# Altium footprint library LINUX.PcbLib: 113 footprints (part 1 of 8)
Each footprint in its own frame and in the unit in brackets; x right, y up, seen from the top. Pads: shape width x height; smd on the part's side, far side on the other; paste and mask are expansions set on the pad; w line width, h text height; cw(c..) or ccw(c..) is an arc to the next point about the centre after c.
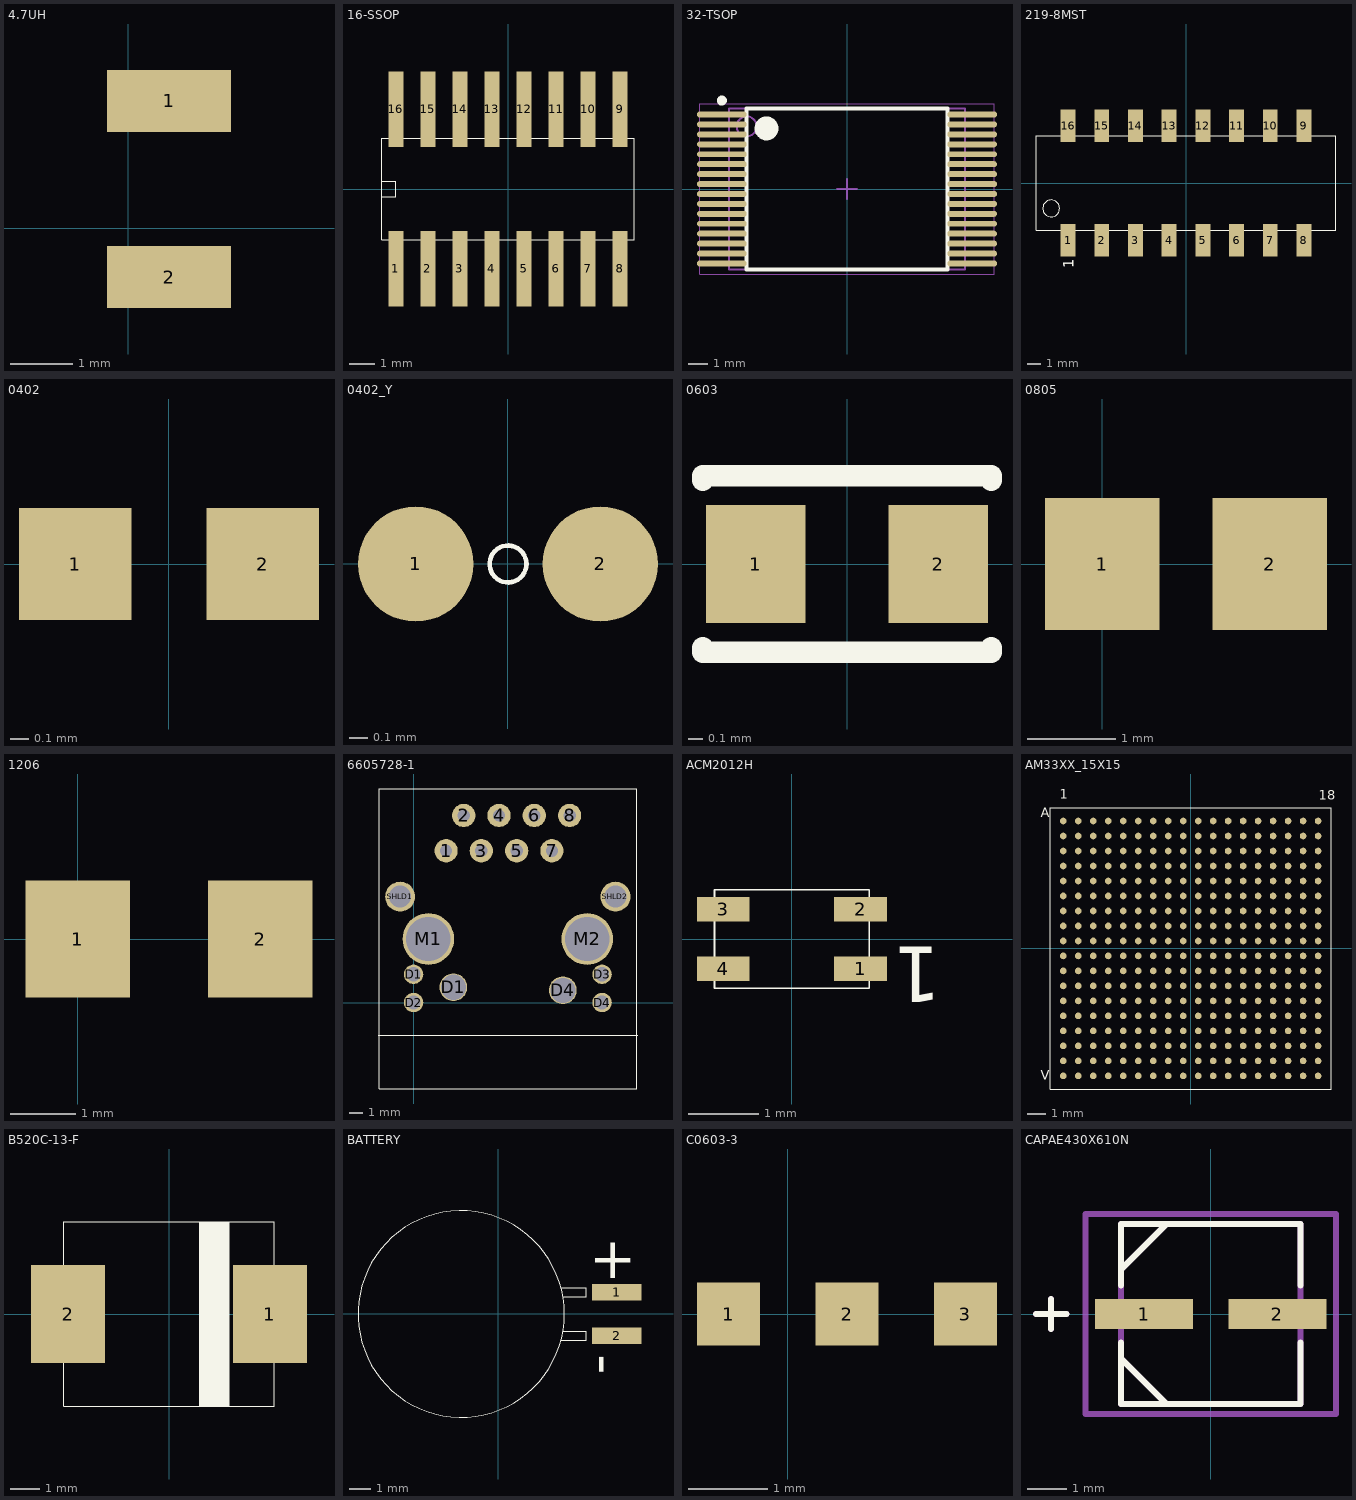
[diagram p0: the footprints below, top view; thin cyan lines are the x and y axes]

## 4.7UH [mm]
pads (2):
  rect 2x1 smd: 1(0.66,2.057) 2(0.66,-0.787)

## 16-SSOP [mm]
pads (16):
  rect 0.6x3 smd: 1(-4.445,-3.162) 2(-3.175,-3.162) 3(-1.905,-3.162) 4(-0.635,-3.162) 5(0.635,-3.162) 6(1.905,-3.162) 7(3.175,-3.162) 8(4.445,-3.162) 9(4.445,3.162) 10(3.175,3.162) 11(1.905,3.162) 12(0.635,3.162) 13(-0.635,3.162) 14(-1.905,3.162) 15(-3.175,3.162) 16(-4.445,3.162)
Top Overlay:
  lines w0.025: -5.004,-2.007 5.004,-2.007 5.004,2.007 -5.004,2.007 -5.004,-2.007 ; -5.004,-0.305 -4.445,-0.305 -4.445,0.305 -5.004,0.305 -5.004,-0.305

## 32-TSOP [mm] "SOP, 32-Leads, Body 11.9x8.1mm, Pitch 0.5mm, IPC Medium Density"
height 1.25
pads (32):
  oval 2.5x0.3 smd mask+0.005: 1(-6.3,3.75) 2(-6.3,3.25) 3(-6.3,2.75) 4(-6.3,2.25) 5(-6.3,1.75) 6(-6.3,1.25) 7(-6.3,0.75) 8(-6.3,0.25) 9(-6.3,-0.25) 10(-6.3,-0.75) 11(-6.3,-1.25) 12(-6.3,-1.75) 13(-6.3,-2.25) 14(-6.3,-2.75) 15(-6.3,-3.25) 16(-6.3,-3.75) 17(6.3,-3.75) 18(6.3,-3.25) 19(6.3,-2.75) 20(6.3,-2.25) 21(6.3,-1.75) 22(6.3,-1.25) 23(6.3,-0.75) 24(6.3,-0.25) 25(6.3,0.25) 26(6.3,0.75) 27(6.3,1.25) 28(6.3,1.75) 29(6.3,2.25) 30(6.3,2.75) 31(6.3,3.25) 32(6.3,3.75)
Top Overlay:
  circle w0.25: c-6.3,4.45 r0.125
  circle w0.6: c-4.05,3.05 r0.3
  lines w0.2: -5.05,-4.05 -5.05,4.05 5.05,4.05 5.05,-4.05 -5.05,-4.05
Mechanical 13:
  circle w0.1: c-5.05,3.15 r0.5
  lines w0.1: -5.95,-4.05 -5.95,4.05 5.95,4.05 5.95,-4.05 -5.95,-4.05
Mechanical 15:
  lines w0.05: -7.4,-4.3 -7.4,4.3 7.4,4.3 7.4,-4.3 -7.4,-4.3
  lines w0.1: -0.5,0 0.5,0 ; 0,-0.5 0,0.5
3D body: height 1.25, standoff 0.05, extent -5.95,-4.05 5.95,4.05

## 219-8MST [mil] "219-8MST"
pads (16):
  rect 44x96 smd: 1(-350,-170) 2(-250,-170) 3(-150,-170) 4(-50,-170) 5(50,-170) 6(150,-170) 7(250,-170) 8(350,-170) 9(350,170) 10(250,170) 11(150,170) 12(50,170) 13(-50,170) 14(-150,170) 15(-250,170) 16(-350,170)
Top Overlay:
  circle w1: c-400,-75 r25
  lines w1: -445,-140 445,-140 445,140 -445,140 -445,-140
  text "1" at -333,-253 h31

## 0402 [mm]
pads (2):
  rect 0.6x0.6 smd mask+0.06: 1(-0.5,0) 2(0.5,0)

## 0402_Y [mil] "SM-7351-RES-0402"
pads (2):
  round 25 smd: 1(-20,0) 2(20,0)
Top Overlay:
  circle w1: c0,0 r4

## 0603 [mil] "0603_CC"
pads (2):
  rect 28x33 smd: 1(-25.59,0) 2(25.59,0)
Top Overlay:
  lines w6: -40.47,-23.54 -40.47,-24.72 40.47,-24.72 40.47,-23.54 ; -40.47,23.54 -40.47,24.72 40.47,24.72 40.47,23.54

## 0805 [mm]
pads (2):
  rect 1.3x1.5 smd: 1(0,0) 2(1.9,0)

## 1206 [mm]
pads (2):
  rect 1.6x1.8 smd: 1(0,0) 2(2.8,0)

## 6605728-1 [mil] "6605728-1"
pads (18):
  round 66 hole 35: 1(92,430) 2(142,530) 3(192,430) 4(242,530) 5(292,430) 6(342,530) 7(392,430) 8(442,530)
  round 55 hole 40: D1(0,80) D2(0,0) D3(534,80) D4(534,0)
  round 78.74 hole 70.87: D1(112.6,43.31) D4(422.83,34.65)
  round 146 hole 126: M1(42,180) M2(492,180)
  round 85 hole 62: SHLD1(-38,300) SHLD2(572,300)
Top Overlay:
  lines w1: -100,-92 635,-92 ; -98,-245 -98,605 632,605 632,-245 -98,-245

## ACM2012H [mm] "ACM2012H"
pads (4):
  rect 0.75x0.35 smd: 1(0.975,-0.425) 2(0.975,0.425) 3(-0.975,0.425) 4(-0.975,-0.425)
Top Overlay:
  lines w0.025: -1.1,-0.7 1.1,-0.7 1.1,0.7 -1.1,0.7 -1.1,-0.7
  text "1" at 2.126,-0.113 h0.79

## AM33XX_15X15 [mm] "AM33XX_15X15"
pads (324):
  round 0.356 smd mask+0.1: A1(-6.8,6.8) A2(-6,6.8) A3(-5.2,6.8) A4(-4.4,6.8) A5(-3.6,6.8) A6(-2.8,6.8) A7(-2,6.8) A8(-1.2,6.8) A9(-0.4,6.8) A10(0.4,6.8) A11(1.2,6.8) A12(2,6.8) A13(2.8,6.8) A14(3.6,6.8) A15(4.4,6.8) A16(5.2,6.8) A17(6,6.8) A18(6.8,6.8) B1(-6.8,6) B2(-6,6) B3(-5.2,6) B4(-4.4,6) B5(-3.6,6) B6(-2.8,6) B7(-2,6) B8(-1.2,6) B9(-0.4,6) B10(0.4,6) B11(1.2,6) B12(2,6) B13(2.8,6) B14(3.6,6) B15(4.4,6) B16(5.2,6) B17(6,6) B18(6.8,6) C1(-6.8,5.2) C2(-6,5.2) C3(-5.2,5.2) C4(-4.4,5.2) C5(-3.6,5.2) C6(-2.8,5.2) C7(-2,5.2) C8(-1.2,5.2) C9(-0.4,5.2) C10(0.4,5.2) C11(1.2,5.2) C12(2,5.2) C13(2.8,5.2) C14(3.6,5.2) C15(4.4,5.2) C16(5.2,5.2) C17(6,5.2) C18(6.8,5.2) D1(-6.8,4.4) D2(-6,4.4) D3(-5.2,4.4) D4(-4.4,4.4) D5(-3.6,4.4) D6(-2.8,4.4) D7(-2,4.4) D8(-1.2,4.4) D9(-0.4,4.4) D10(0.4,4.4) D11(1.2,4.4) D12(2,4.4) D13(2.8,4.4) D14(3.6,4.4) D15(4.4,4.4) D16(5.2,4.4) D17(6,4.4) D18(6.8,4.4) E1(-6.8,3.6) E2(-6,3.6) E3(-5.2,3.6) E4(-4.4,3.6) E5(-3.6,3.6) E6(-2.8,3.6) E7(-2,3.6) E8(-1.2,3.6) E9(-0.4,3.6) E10(0.4,3.6) E11(1.2,3.6) E12(2,3.6) E13(2.8,3.6) E14(3.6,3.6) E15(4.4,3.6) E16(5.2,3.6) E17(6,3.6) E18(6.8,3.6) F1(-6.8,2.8) F2(-6,2.8) F3(-5.2,2.8) F4(-4.4,2.8) F5(-3.6,2.8) F6(-2.8,2.8) F7(-2,2.8) F8(-1.2,2.8) F9(-0.4,2.8) F10(0.4,2.8) F11(1.2,2.8) F12(2,2.8) F13(2.8,2.8) F14(3.6,2.8) F15(4.4,2.8) F16(5.2,2.8) F17(6,2.8) F18(6.8,2.8) G1(-6.8,2) G2(-6,2) G3(-5.2,2) G4(-4.4,2) G5(-3.6,2) G6(-2.8,2) G7(-2,2) G8(-1.2,2) G9(-0.4,2) G10(0.4,2) G11(1.2,2) G12(2,2) G13(2.8,2) G14(3.6,2) G15(4.4,2) G16(5.2,2) G17(6,2) G18(6.8,2) H1(-6.8,1.2) H2(-6,1.2) H3(-5.2,1.2) H4(-4.4,1.2) H5(-3.6,1.2) H6(-2.8,1.2) H7(-2,1.2) H8(-1.2,1.2) H9(-0.4,1.2) H10(0.4,1.2) H11(1.2,1.2) H12(2,1.2) H13(2.8,1.2) H14(3.6,1.2) H15(4.4,1.2) H16(5.2,1.2) H17(6,1.2) H18(6.8,1.2) J1(-6.8,0.4) J2(-6,0.4) J3(-5.2,0.4) J4(-4.4,0.4) J5(-3.6,0.4) J6(-2.8,0.4) J7(-2,0.4) J8(-1.2,0.4) J9(-0.4,0.4) J10(0.4,0.4) J11(1.2,0.4) J12(2,0.4) J13(2.8,0.4) J14(3.6,0.4) J15(4.4,0.4) J16(5.2,0.4) J17(6,0.4) J18(6.8,0.4) K1(-6.8,-0.4) K2(-6,-0.4) K3(-5.2,-0.4) K4(-4.4,-0.4) K5(-3.6,-0.4) K6(-2.8,-0.4) K7(-2,-0.4) K8(-1.2,-0.4) K9(-0.4,-0.4) K10(0.4,-0.4) K11(1.2,-0.4) K12(2,-0.4) K13(2.8,-0.4) K14(3.6,-0.4) K15(4.4,-0.4) K16(5.2,-0.4) K17(6,-0.4) K18(6.8,-0.4) L1(-6.8,-1.2) L2(-6,-1.2) L3(-5.2,-1.2) L4(-4.4,-1.2) L5(-3.6,-1.2) L6(-2.8,-1.2) L7(-2,-1.2) L8(-1.2,-1.2) L9(-0.4,-1.2) L10(0.4,-1.2) L11(1.2,-1.2) L12(2,-1.2) L13(2.8,-1.2) L14(3.6,-1.2) L15(4.4,-1.2) L16(5.2,-1.2) L17(6,-1.2) L18(6.8,-1.2) M1(-6.8,-2) M2(-6,-2) M3(-5.2,-2) M4(-4.4,-2) M5(-3.6,-2) M6(-2.8,-2) M7(-2,-2) M8(-1.2,-2) M9(-0.4,-2) M10(0.4,-2) M11(1.2,-2) M12(2,-2) M13(2.8,-2) M14(3.6,-2) M15(4.4,-2) M16(5.2,-2) M17(6,-2) M18(6.8,-2) N1(-6.8,-2.8) N2(-6,-2.8) N3(-5.2,-2.8) N4(-4.4,-2.8) N5(-3.6,-2.8) N6(-2.8,-2.8) N7(-2,-2.8) N8(-1.2,-2.8) N9(-0.4,-2.8) N10(0.4,-2.8) N11(1.2,-2.8) N12(2,-2.8) N13(2.8,-2.8) N14(3.6,-2.8) N15(4.4,-2.8) N16(5.2,-2.8) N17(6,-2.8) N18(6.8,-2.8) P1(-6.8,-3.6) P2(-6,-3.6) P3(-5.2,-3.6) P4(-4.4,-3.6) P5(-3.6,-3.6) P6(-2.8,-3.6) P7(-2,-3.6) P8(-1.2,-3.6) P9(-0.4,-3.6) P10(0.4,-3.6) P11(1.2,-3.6) P12(2,-3.6) P13(2.8,-3.6) P14(3.6,-3.6) P15(4.4,-3.6) P16(5.2,-3.6) P17(6,-3.6) P18(6.8,-3.6) R1(-6.8,-4.4) R2(-6,-4.4) R3(-5.2,-4.4) R4(-4.4,-4.4) R5(-3.6,-4.4) R6(-2.8,-4.4) R7(-2,-4.4) R8(-1.2,-4.4) R9(-0.4,-4.4) R10(0.4,-4.4) R11(1.2,-4.4) R12(2,-4.4) R13(2.8,-4.4) R14(3.6,-4.4) R15(4.4,-4.4) R16(5.2,-4.4) R17(6,-4.4) R18(6.8,-4.4) T1(-6.8,-5.2) T2(-6,-5.2) T3(-5.2,-5.2) T4(-4.4,-5.2) T5(-3.6,-5.2) T6(-2.8,-5.2) T7(-2,-5.2) T8(-1.2,-5.2) T9(-0.4,-5.2) T10(0.4,-5.2) T11(1.2,-5.2) T12(2,-5.2) T13(2.8,-5.2) T14(3.6,-5.2) T15(4.4,-5.2) T16(5.2,-5.2) T17(6,-5.2) T18(6.8,-5.2) U1(-6.8,-6) U2(-6,-6) U3(-5.2,-6) U4(-4.4,-6) U5(-3.6,-6) U6(-2.8,-6) U7(-2,-6) U8(-1.2,-6) U9(-0.4,-6) U10(0.4,-6) U11(1.2,-6) U12(2,-6) U13(2.8,-6) U14(3.6,-6) U15(4.4,-6) U16(5.2,-6) U17(6,-6) U18(6.8,-6) V1(-6.8,-6.8) V2(-6,-6.8) V3(-5.2,-6.8) V4(-4.4,-6.8) V5(-3.6,-6.8) V6(-2.8,-6.8) V7(-2,-6.8) V8(-1.2,-6.8) V9(-0.4,-6.8) V10(0.4,-6.8) V11(1.2,-6.8) V12(2,-6.8) V13(2.8,-6.8) V14(3.6,-6.8) V15(4.4,-6.8) V16(5.2,-6.8) V17(6,-6.8) V18(6.8,-6.8)
Top Overlay:
  lines w0.025: -7.5,-7.5 7.5,-7.5 7.5,7.5 -7.5,7.5 -7.5,-7.5
  text "1" at -7,8 h0.51
  text "18" at 6.833,7.925 h0.51
  text "A" at -8,7 h0.51
  text "V" at -8,-7 h0.51

## B520C-13-F [mm] "B520C-13-F"
pads (2):
  rect 2.5x3.3 smd: 1(3.4,0) 2(-3.4,0)
Top Overlay:
  pour cut-out: 1.016,3.1 2.032,3.1 2.032,-3.1 1.016,-3.1
  lines w0.025: -3.55,-3.1 3.55,-3.1 3.55,3.1 -3.55,3.1 -3.55,-3.1

## BATTERY [mil]
pads (2):
  rect 90x30 smd: 1(214.18,39.37) 2(214.18,-39.37)
Top Overlay:
  circle w1: c-67.32,0 r187.01
  lines w1: 113.78,-47.25 159.06,-47.25 159.06,-31.5 117.33,-31.5 ; 113.78,47.24 159.06,47.24 159.06,31.49 116.93,31.49
  text "+" at 164.18,65 h75
  text "-" at 214.18,-110 h75

## C0603-3 [mm]
pads (3):
  rect 0.8x0.8 smd: 1(-0.75,0) 2(0.75,0) 3(2.25,0)

## CAPAE430X610N [mil]
pads (2):
  rect 97x30 smd: 1(-66,0) 2(66,0)
Top Overlay:
  lines w6: -173,0 -143,0 ; -158,-15 -158,15 ; -89,-28 -89,-44 ; -89,28 -89,89 89,89 89,28 ; -89,44 -44,89 ; -44,-89 -89,-44 ; 89,-28 89,-89 -89,-89 -89,-44
Mechanical 16:
  lines w6: -173,0 -143,0 ; -158,-15 -158,15 ; -89,-44 -44,-89 ; -89,44 -44,89 ; -124,-99 -124,99 124,99 124,-99 -124,-99 ; -89,-89 -89,89 89,89 89,-89 -89,-89